# Altium footprint library LIS2DUXS12TR.PcbLib: 3 footprints
Each footprint in its own frame and in the unit in brackets; x right, y up, seen from the top. Pads: shape width x height; smd on the part's side, far side on the other; paste and mask are expansions set on the pad; w line width, h text height; cw(c..) or ccw(c..) is an arc to the next point about the centre after c.
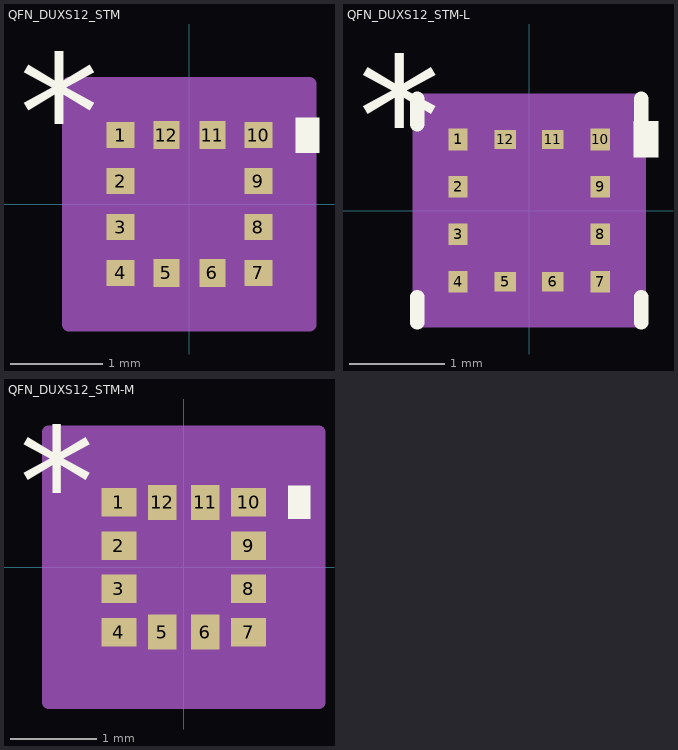
[diagram p0: the footprints below, top view; thin cyan lines are the x and y axes]

## QFN_DUXS12_STM [mil]
pads (12):
  rect 12x11 smd paste+0 mask+0: 1(-29.5,29.54) 2(-29.5,9.85) 3(-29.5,-9.85) 4(-29.5,-29.54) 7(29.5,-29.54) 8(29.5,-9.85) 9(29.5,9.85) 10(29.5,29.54)
  rect 11x12 smd paste+0 mask+0: 5(-9.85,-29.5) 6(9.85,-29.5) 11(9.85,29.5) 12(-9.85,29.5)
Top Overlay:
  region: 45.5,37.03 55.5,37.03 55.5,22.04 45.5,22.04
  text "*" at -73,14.38 h50
Mechanical 13:
  lines w1: -41.5,-8.5 8.5,41.5 ; -41.5,-41.5 41.5,-41.5 ; -41.5,-41.5 -41.5,41.5 ; -41.5,-41.5 -41.5,-41.5 ; -41.5,41.5 41.5,41.5 ; -41.5,41.5 -41.5,41.5 ; 41.5,-41.5 41.5,-41.5 ; 41.5,-41.5 41.5,41.5 ; 41.5,41.5 41.5,41.5 ; -41.5,-35.03 -41.5,-24.04 -35.5,-24.04 -35.5,-35.03 -41.5,-35.03 ; -41.5,-15.35 -41.5,-4.34 -35.5,-4.34 -35.5,-15.35 -41.5,-15.35 ; -41.5,4.34 -41.5,15.35 -35.5,15.35 -35.5,4.34 -41.5,4.34 ; -41.5,24.04 -41.5,35.03 -35.5,35.03 -35.5,24.04 -41.5,24.04 ; -15.35,-41.5 -4.34,-41.5 -4.34,-35.5 -15.35,-35.5 -15.35,-41.5 ; -15.35,35.5 -4.34,35.5 -4.34,41.5 -15.35,41.5 -15.35,35.5 ; 4.34,-41.5 15.35,-41.5 15.35,-35.5 4.34,-35.5 4.34,-41.5 ; 4.34,35.5 15.35,35.5 15.35,41.5 4.34,41.5 4.34,35.5 ; 35.5,-35.03 41.5,-35.03 41.5,-24.04 35.5,-24.04 35.5,-35.03 ; 35.5,-15.35 41.5,-15.35 41.5,-4.34 35.5,-4.34 35.5,-15.35 ; 35.5,4.34 41.5,4.34 41.5,15.35 35.5,15.35 35.5,4.34 ; 35.5,24.04 41.5,24.04 41.5,35.03 35.5,35.03 35.5,24.04
  text "*" at -36,14.38 h50
Mechanical 15:
  region: -25.34,-51.5 -51.5,-51.5 -51.5,-45.03 -51.5,45.03 -51.5,51.5 -25.34,51.5 25.34,51.5 51.5,51.5 51.5,45.03 51.5,-45.03 51.5,-51.5 25.34,-51.5
  lines w6: -51.5,-45.03 -51.5,-51.5 -25.34,-51.5 ; -51.5,-45.03 -51.5,-45.03 ; -51.5,-45.03 -51.5,45.03 ; -51.5,45.03 -51.5,45.03 ; -51.5,45.03 -51.5,51.5 -25.34,51.5 ; -25.34,-51.5 25.34,-51.5 ; -25.34,-51.5 -25.34,-51.5 ; -25.34,51.5 -25.34,51.5 ; -25.34,51.5 25.34,51.5 ; 25.34,-51.5 51.5,-51.5 51.5,-45.03 ; 25.34,-51.5 25.34,-51.5 ; 25.34,51.5 25.34,51.5 ; 25.34,51.5 51.5,51.5 51.5,45.03 ; 51.5,-45.03 51.5,45.03 ; 51.5,-45.03 51.5,-45.03 ; 51.5,45.03 51.5,45.03
3D body "QFN_DUXS12_STM.step": height 29.09, standoff 0, extent -41.5,-41.5 41.5,41.5

## QFN_DUXS12_STM-L [mil]
pads (12):
  rect 8.06x9.03 smd paste+0 mask+0: 1(-29.5,29.54) 2(-29.5,9.85) 3(-29.5,-9.85) 4(-29.5,-29.54) 7(29.5,-29.54) 8(29.5,-9.85) 9(29.5,9.85) 10(29.5,29.54)
  rect 9.03x8.06 smd paste+0 mask+0: 5(-9.85,-29.5) 6(9.85,-29.5) 11(9.85,29.5) 12(-9.85,29.5)
Top Overlay:
  region: 43.53,37.03 53.53,37.03 53.53,22.04 43.53,22.04
  lines w6: -46.5,-46.5 -46.5,-35.9 ; -46.5,35.9 -46.5,46.5 ; 46.5,-46.5 46.5,-35.9 ; 46.5,35.9 46.5,46.5
  text "*" at -71.03,14.38 h50
Mechanical 13:
  lines w1: -41.5,-8.5 8.5,41.5 ; -41.5,-41.5 41.5,-41.5 ; -41.5,-41.5 -41.5,41.5 ; -41.5,-41.5 -41.5,-41.5 ; -41.5,41.5 41.5,41.5 ; -41.5,41.5 -41.5,41.5 ; 41.5,-41.5 41.5,-41.5 ; 41.5,-41.5 41.5,41.5 ; 41.5,41.5 41.5,41.5 ; -41.5,-35.03 -41.5,-24.04 -35.5,-24.04 -35.5,-35.03 -41.5,-35.03 ; -41.5,-15.35 -41.5,-4.34 -35.5,-4.34 -35.5,-15.35 -41.5,-15.35 ; -41.5,4.34 -41.5,15.35 -35.5,15.35 -35.5,4.34 -41.5,4.34 ; -41.5,24.04 -41.5,35.03 -35.5,35.03 -35.5,24.04 -41.5,24.04 ; -15.35,-41.5 -4.34,-41.5 -4.34,-35.5 -15.35,-35.5 -15.35,-41.5 ; -15.35,35.5 -4.34,35.5 -4.34,41.5 -15.35,41.5 -15.35,35.5 ; 4.34,-41.5 15.35,-41.5 15.35,-35.5 4.34,-35.5 4.34,-41.5 ; 4.34,35.5 15.35,35.5 15.35,41.5 4.34,41.5 4.34,35.5 ; 35.5,-35.03 41.5,-35.03 41.5,-24.04 35.5,-24.04 35.5,-35.03 ; 35.5,-15.35 41.5,-15.35 41.5,-4.34 35.5,-4.34 35.5,-15.35 ; 35.5,4.34 41.5,4.34 41.5,15.35 35.5,15.35 35.5,4.34 ; 35.5,24.04 41.5,24.04 41.5,35.03 35.5,35.03 35.5,24.04
  text "*" at -37.97,14.38 h50
Mechanical 15:
  region: -18.36,-45.5 -45.5,-45.5 -45.5,-38.05 -45.5,38.05 -45.5,45.5 -18.36,45.5 18.36,45.5 45.5,45.5 45.5,38.05 45.5,-38.05 45.5,-45.5 18.36,-45.5
  lines w6: -45.5,-38.05 -45.5,-45.5 -18.36,-45.5 ; -45.5,-38.05 -45.5,-38.05 ; -45.5,-38.05 -45.5,38.05 ; -45.5,38.05 -45.5,38.05 ; -45.5,38.05 -45.5,45.5 -18.36,45.5 ; -18.36,-45.5 18.36,-45.5 ; -18.36,-45.5 -18.36,-45.5 ; -18.36,45.5 -18.36,45.5 ; -18.36,45.5 18.36,45.5 ; 18.36,-45.5 45.5,-45.5 45.5,-38.05 ; 18.36,-45.5 18.36,-45.5 ; 18.36,45.5 18.36,45.5 ; 18.36,45.5 45.5,45.5 45.5,38.05 ; 45.5,-38.05 45.5,38.05 ; 45.5,-38.05 45.5,-38.05 ; 45.5,38.05 45.5,38.05
3D body "QFN_DUXS12_STM.step": height 29.09, standoff 0, extent -41.5,-41.5 41.5,41.5

## QFN_DUXS12_STM-M [mil]
pads (12):
  rect 15.94x12.97 smd paste+0 mask+0: 1(-29.5,29.54) 2(-29.5,9.85) 3(-29.5,-9.85) 4(-29.5,-29.54) 7(29.5,-29.54) 8(29.5,-9.85) 9(29.5,9.85) 10(29.5,29.54)
  rect 12.97x15.94 smd paste+0 mask+0: 5(-9.85,-29.5) 6(9.85,-29.5) 11(9.85,29.5) 12(-9.85,29.5)
Top Overlay:
  region: 47.47,37.03 57.47,37.03 57.47,22.04 47.47,22.04
  text "*" at -74.97,14.38 h50
Mechanical 13:
  lines w1: -41.5,-8.5 8.5,41.5 ; -41.5,-41.5 41.5,-41.5 ; -41.5,-41.5 -41.5,41.5 ; -41.5,-41.5 -41.5,-41.5 ; -41.5,41.5 41.5,41.5 ; -41.5,41.5 -41.5,41.5 ; 41.5,-41.5 41.5,-41.5 ; 41.5,-41.5 41.5,41.5 ; 41.5,41.5 41.5,41.5 ; -41.5,-35.03 -41.5,-24.04 -35.5,-24.04 -35.5,-35.03 -41.5,-35.03 ; -41.5,-15.35 -41.5,-4.34 -35.5,-4.34 -35.5,-15.35 -41.5,-15.35 ; -41.5,4.34 -41.5,15.35 -35.5,15.35 -35.5,4.34 -41.5,4.34 ; -41.5,24.04 -41.5,35.03 -35.5,35.03 -35.5,24.04 -41.5,24.04 ; -15.35,-41.5 -4.34,-41.5 -4.34,-35.5 -15.35,-35.5 -15.35,-41.5 ; -15.35,35.5 -4.34,35.5 -4.34,41.5 -15.35,41.5 -15.35,35.5 ; 4.34,-41.5 15.35,-41.5 15.35,-35.5 4.34,-35.5 4.34,-41.5 ; 4.34,35.5 15.35,35.5 15.35,41.5 4.34,41.5 4.34,35.5 ; 35.5,-35.03 41.5,-35.03 41.5,-24.04 35.5,-24.04 35.5,-35.03 ; 35.5,-15.35 41.5,-15.35 41.5,-4.34 35.5,-4.34 35.5,-15.35 ; 35.5,4.34 41.5,4.34 41.5,15.35 35.5,15.35 35.5,4.34 ; 35.5,24.04 41.5,24.04 41.5,35.03 35.5,35.03 35.5,24.04
  text "*" at -34.03,14.38 h50
Mechanical 15:
  region: -36.33,-61.5 -61.5,-61.5 -61.5,-56.02 -61.5,56.02 -61.5,61.5 -36.33,61.5 36.33,61.5 61.5,61.5 61.5,56.02 61.5,-56.02 61.5,-61.5 36.33,-61.5
  lines w6: -61.5,-56.02 -61.5,-61.5 -36.33,-61.5 ; -61.5,-56.02 -61.5,-56.02 ; -61.5,-56.02 -61.5,56.02 ; -61.5,56.02 -61.5,56.02 ; -61.5,56.02 -61.5,61.5 -36.33,61.5 ; -36.33,-61.5 36.33,-61.5 ; -36.33,-61.5 -36.33,-61.5 ; -36.33,61.5 -36.33,61.5 ; -36.33,61.5 36.33,61.5 ; 36.33,-61.5 61.5,-61.5 61.5,-56.02 ; 36.33,-61.5 36.33,-61.5 ; 36.33,61.5 36.33,61.5 ; 36.33,61.5 61.5,61.5 61.5,56.02 ; 61.5,-56.02 61.5,56.02 ; 61.5,-56.02 61.5,-56.02 ; 61.5,56.02 61.5,56.02
3D body "QFN_DUXS12_STM.step": height 29.09, standoff 0, extent -41.5,-41.5 41.5,41.5